# Altium schematic symbol library RJ11-MIC.SchLib: 1 symbol
Pins are listed as number, name and electrical type; pins without a type are passive.

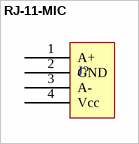
[diagram p0: symbol RJ-11-MIC]

## RJ-11-MIC
designator J?  (value not drawn)
footprint RJ11 Micro
pins: 1 A+, 2 GND, 3 A-, 4 Vcc